# EAGLE library part LTC3832 (library PowerProducts)
LT-Spice library generated with : ltspice.ulp from: D:/Program Files (x86)/LTC/LTspiceIV/lib/sym/PowerProducts/LTC3833*.asy at 07.10.2012 18:38:37
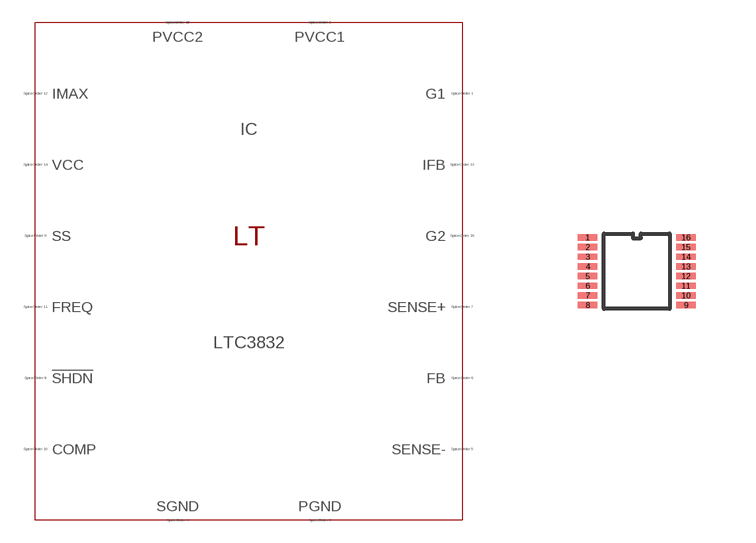
[diagram p356: symbol with the pads of SSOP16(GN); footprint SSOP16(GN)]

Designator prefix IC

## LTC3832 (SPICEMODEL: LTC3832.sub; SPICEPREFIX: X; VALUE2: LTC3832)  [SSOP16(GN)]
1  G1  pas
2  PVCC1  pas
3  PGND  pas
4  SGND  pas
5  SENSE-  pas
6  FB  pas
7  SENSE+  pas
8  !SHDN  pas
9  SS  pas
10  COMP  pas
11  FREQ  pas
12  IMAX  pas
13  IFB  pas
14  VCC  pas
15  PVCC2  pas
16  G2  pas

## Footprint SSOP16(GN) (pad centres in mm)
Package generated from: SSOP16(GN).asc (!PADS-POWERPCB-V5.0-BASIC! DESIGN DATABASE ASCII FILE 1.0) with :import-pads-powerpcb-v5.ulp Version 1.0.1 at 04.10.2012 14:11:37
smd 0.484 x 0.16: 1 -1.229,0.847; 2 -1.229,0.605; 3 -1.229,0.363; 4 -1.229,0.121; 5 -1.229,-0.121; 6 -1.229,-0.363; 7 -1.229,-0.605; 8 -1.229,-0.847; 9 1.229,-0.847; 10 1.229,-0.605; 11 1.229,-0.363; 12 1.229,-0.121; 13 1.229,0.121; 14 1.229,0.363; 15 1.229,0.605; 16 1.229,0.847